# Altium schematic symbol library DiodesAndTransistors.SchLib: 4 symbols
Pins are listed as number, name and electrical type; pins without a type are passive.

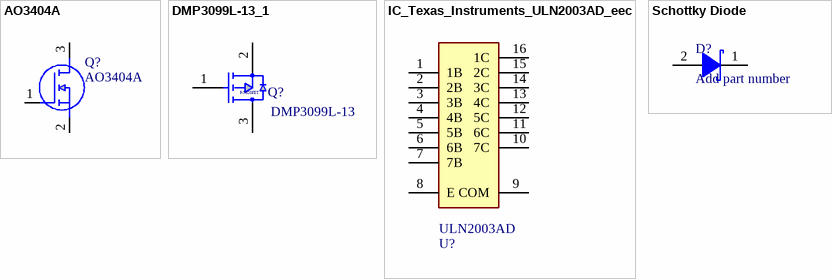
[diagram p0: symbols AO3404A to Schottky Diode]

## AO3404A
designator Q?
MOSFET N-CH 30V 5.8A SOT23; Manufacturer_Name: Alpha & Omega Semiconductors; Geometry.Height: 1.25mm; Manufacturer_Part_Number: AO3404A; RS Part Number: *; RS Price/Stock: *; Mouser Part Number: *; Mouser Price/Stock: *; Datasheet Link: http://aosmd.com/res/data_sheets/AO3404A.pdf
footprint SOT95P280X125-3N
pins: 1 G, 2 S, 3 D

## DMP3099L-13_1
designator Q?, comment DMP3099L-13
Part Number: DMP3099L-13
footprint Diodes_Inc_SOT23_IPC_A
footprint Diodes_Inc_SOT23_IPC_B
footprint Diodes_Inc_SOT23_IPC_C
footprint Diodes_Inc_SOT23_MFG
pins: 1 G, 2 S, 3 D
text: P-MOSFET

## IC_Texas_Instruments_ULN2003AD_eec
designator U?  Part Number: ULN2003AD
IC PWR RELAY 7NPN 1:1 16SOIC; Manufacturer: Texas Instruments; Voltage: 50V; Num Pins: 16; pin_2_description: base 2; pin_13_description: collector 4; pin_4_description: base 4; pin_7_description: base 7; pin_8_description: common emitter (ground); pin_6_description: base 6; pin_16_description: collector 1; pin_3_description: base 3; pin_5_description: base 5; pin_14_description: collector 3; pin_15_description: collector 2; Mfg Package Ident: D (R-PDSO-G16); pin_10_description: collector 7; pin_12_description: collector 5; Maximum peak collector current: 500mA; Symbol 0 0: Standard; Series resistance at bases: n/a (ULN2002) 2.7 (ULN2003) 10.5 (ULN2004)kΩ; pin_9_description: common; pin_11_description: collector 6; pin_1_description: base 1; Maximum input voltage: 30V; helpURL: https://upverter.com/upn/revision/b6192e928bb9060e/; ComponentLink2Description: Datasheet; Temperature: -20°C to +70°C; Package: D (R-PDSO-G16); Supplier 2: Mouser; Supplier 1: Digi-Key; ComponentLink1URL: https://upverter.com/upn/revision/b6192e928bb9060e/; Supplier Part Number 2: 595-ULN2003AD; Supplier Part Number 1: 296-1368-5-ND; ComponentLink1Description: Upverter; ComponentLink2URL: http://www.ti.com/lit/ds/symlink/uln2003a.pdf; RoHS: TRUE; Mouser Part Number: 595-ULN2003AD; Type: integrated circuit; Temperature Range High: +70°C; Octopart Part Number: 54c49dec516c8b03; Digikey Description: IC PWR RELAY 7NPN 1:1 16SOIC; Digikey Part Number: 296-1368-5-ND; Maximum collector-emitter voltage: 50V; Lead Free: yes; Temperature Range Low: -20°C
footprint Texas_Instruments_D_R-PDSO-G16_0
pins: 1 1B "base 1", 2 2B "base 2", 3 3B "base 3", 4 4B "base 4", 5 5B "base 5", 6 6B "base 6", 7 7B "base 7", 8 E "common emitter (ground)", 9 COM "common", 10 7C "collector 7", 11 6C "collector 6", 12 5C "collector 5", 13 4C "collector 4", 14 3C "collector 3", 15 2C "collector 2", 16 1C "collector 1"

## Schottky Diode
designator D?, comment Add part number
Part Number: Add part number
footprint SS26FL_SS24FL_ONSemi_A (SODFL, 2-Leads, Body 1.73x3.60mm, IPC Low Density)
footprint SS26FL_SS24FL_ONSemi_B (SODFL, 2-Leads, Body 1.73x3.60mm, IPC Medium Density)
footprint SS26FL_SS24FL_ONSemi_C (SODFL, 2-Leads, Body 1.73x3.60mm, IPC High Density)
pins: 1 Cathode, 2 Anode